# EAGLE library part ROCKETNET-CONNECTOR-16 (library 16-pin-rocketnet)
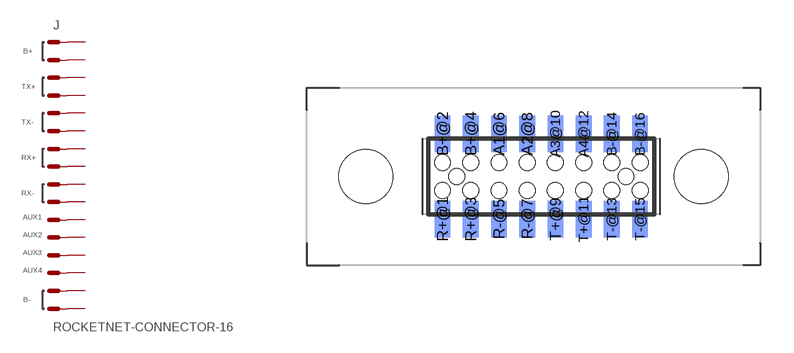
[diagram p1: symbol with the pads of ROCKNET-CONNECTOR-F-16; footprint ROCKNET-CONNECTOR-F-16]

Designator prefix J

## ROCKETNET-CONNECTOR-16  [ROCKNET-CONNECTOR-F-16]
A1@6  AUX1  pas
A2@8  AUX2  pas
A3@10  AUX3  pas
A4@12  AUX4  pas
B+@2  B+  pwr
B+@4  B+  pwr
B-@14  B-  pwr
B-@16  B-  pwr
R+@1  RX+  pas
R+@3  RX+  pas
R-@5  RX-  pas
R-@7  RX-  pas
T+@9  TX+  pas
T+@11  TX+  pas
T-@13  TX-  pas
T-@15  TX-  pas

## Footprint ROCKNET-CONNECTOR-F-16 (pad centres in mm)
smd 0.71 x 1.65 bottom: A1@6 -1.905,1.925; A2@8 -0.635,1.925; A3@10 0.635,1.925; A4@12 1.905,1.925; B+@2 -4.445,1.925; B+@4 -3.175,1.925; B-@14 3.175,1.925; B-@16 4.445,1.925; R+@1 -4.445,-1.925; R+@3 -3.175,-1.925; R-@5 -1.905,-1.925; R-@7 -0.635,-1.925; T+@9 0.635,-1.925; T+@11 1.905,-1.925; T-@13 3.175,-1.925; T-@15 4.445,-1.925
hole 0.71 at 3.81,0
hole 0.71 at -3.81,0
hole 0.71 at -4.445,0.635
hole 0.71 at -4.445,-0.635
hole 0.71 at -3.175,0.635
hole 0.71 at -3.175,-0.635
hole 0.71 at -1.905,0.635
hole 0.71 at -1.905,-0.635
hole 0.71 at -0.635,0.635
hole 0.71 at -0.635,-0.635
hole 0.71 at 0.635,0.635
hole 0.71 at 0.635,-0.635
hole 0.71 at 1.905,0.635
hole 0.71 at 1.905,-0.635
hole 0.71 at 3.175,0.635
hole 0.71 at 3.175,-0.635
hole 0.71 at 4.445,0.635
hole 0.71 at 4.445,-0.635
hole 2.438 at 7.2,0
hole 2.438 at -7.9,0